# EAGLE library part OSTTE100104 (library OSTTE100104)
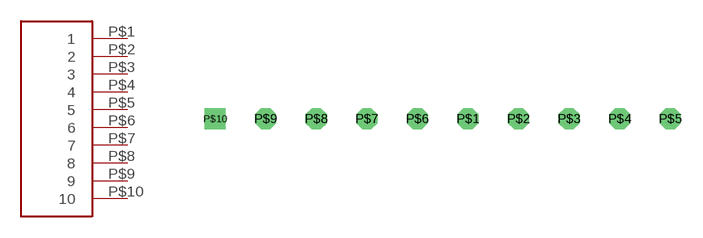
[diagram p0: symbol with the pads of OSTTE100104; footprint OSTTE100104]

Designator prefix J

## OSTTE100104  [OSTTE100104]
P$1  1
P$2  2
P$3  3
P$4  4
P$5  5
P$6  6
P$7  7
P$8  8
P$9  9
P$10  10

## Footprint OSTTE100104 (pad centres in mm)
drill 0.95 octagon: P$1 0,0; P$2 3.5,0; P$3 7,0; P$4 10.5,0; P$5 14,0; P$6 -3.5,0; P$7 -7,0; P$8 -10.5,0; P$9 -14,0
drill 0.95 square: P$10 -17.5,0